# EAGLE library part IS61C3216AL-* (library memory-issi-asynsram)
32k x 16 high- speed CMOS static RAM 12ns access time 5V power supply
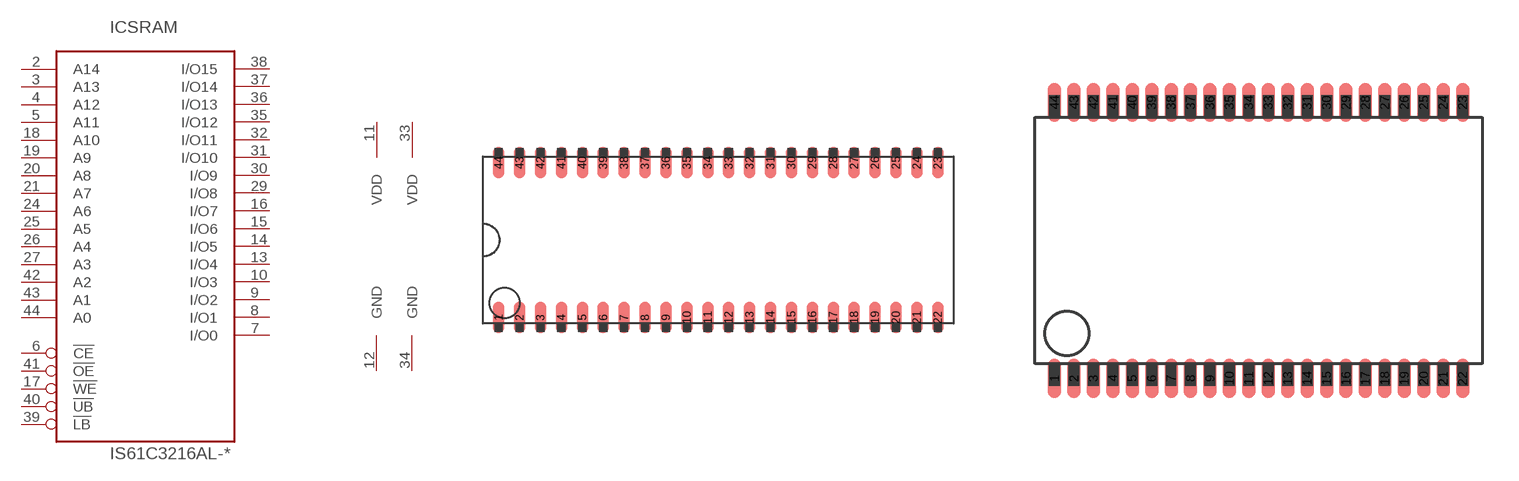
[diagram p69: symbol with the pads of SOJ44-400MIL; footprints SOJ44-400MIL, TSOP-II-44]

Designator prefix IC; gates SRAM=32KX16_TYP1 PWR=PWR_VDD2_GND2

## IS61C3216AL-12K  [SOJ44-400MIL]
2  SRAM:A14  in
3  SRAM:A13  in
4  SRAM:A12  in
5  SRAM:A11  in
6  SRAM:!CE  in
7  SRAM:I/O0  hiz
8  SRAM:I/O1  hiz
9  SRAM:I/O2  hiz
10  SRAM:I/O3  hiz
11  PWR:VDD  pwr
12  PWR:GND  pwr
13  SRAM:I/O4  hiz
14  SRAM:I/O5  hiz
15  SRAM:I/O6  hiz
16  SRAM:I/O7  hiz
17  SRAM:!WE  in
18  SRAM:A10  in
19  SRAM:A9  in
20  SRAM:A8  in
21  SRAM:A7  in
24  SRAM:A6  in
25  SRAM:A5  in
26  SRAM:A4  in
27  SRAM:A3  in
29  SRAM:I/O8  hiz
30  SRAM:I/O9  hiz
31  SRAM:I/O10  hiz
32  SRAM:I/O11  hiz
33  PWR:VDD  pwr
34  PWR:GND  pwr
35  SRAM:I/O12  hiz
36  SRAM:I/O13  hiz
37  SRAM:I/O14  hiz
38  SRAM:I/O15  hiz
39  SRAM:!LB  in
40  SRAM:!UB  in
41  SRAM:!OE  in
42  SRAM:A2  in
43  SRAM:A1  in
44  SRAM:A0  in

## IS61C3216AL-12T  [TSOP-II-44]
Pads as for SOJ44-400MIL

## Footprint SOJ44-400MIL (pad centres in mm)
SOJ44-400mil 44-pin small-outline J-lead
smd 0.7 x 1.9: 1 -13.335,-4.7; 2 -12.065,-4.7; 3 -10.795,-4.7; 4 -9.525,-4.7; 5 -8.255,-4.7; 6 -6.985,-4.7; 7 -5.715,-4.7; 8 -4.445,-4.7; 9 -3.175,-4.7; 10 -1.905,-4.7; 11 -0.635,-4.7; 12 0.635,-4.7; 13 1.905,-4.7; 14 3.175,-4.7; 15 4.445,-4.7; 16 5.715,-4.7; 17 6.985,-4.7; 18 8.255,-4.7; 19 9.525,-4.7; 20 10.795,-4.7; 21 12.065,-4.7; 22 13.335,-4.7; 23 13.335,4.7; 24 12.065,4.7; 25 10.795,4.7; 26 9.525,4.7; 27 8.255,4.7; 28 6.985,4.7; 29 5.715,4.7; 30 4.445,4.7; 31 3.175,4.7; 32 1.905,4.7; 33 0.635,4.7; 34 -0.635,4.7; 35 -1.905,4.7; 36 -3.175,4.7; 37 -4.445,4.7; 38 -5.715,4.7; 39 -6.985,4.7; 40 -8.255,4.7; 41 -9.525,4.7; 42 -10.795,4.7; 43 -12.065,4.7; 44 -13.335,4.7

## Footprint TSOP-II-44 (pad centres in mm)
TSOP-II-44 44-pin thin small-outline package, Typ II
smd 0.55 x 1.6: 1 -8.4,-5.68; 2 -7.6,-5.68; 3 -6.8,-5.68; 4 -6,-5.68; 5 -5.2,-5.68; 6 -4.4,-5.68; 7 -3.6,-5.68; 8 -2.8,-5.68; 9 -2,-5.68; 10 -1.2,-5.68; 11 -0.4,-5.68; 12 0.4,-5.68; 13 1.2,-5.68; 14 2,-5.68; 15 2.8,-5.68; 16 3.6,-5.68; 17 4.4,-5.68; 18 5.2,-5.68; 19 6,-5.68; 20 6.8,-5.68; 21 7.6,-5.68; 22 8.4,-5.68; 23 8.4,5.68; 24 7.6,5.68; 25 6.8,5.68; 26 6,5.68; 27 5.2,5.68; 28 4.4,5.68; 29 3.6,5.68; 30 2.8,5.68; 31 2,5.68; 32 1.2,5.68; 33 0.4,5.68; 34 -0.4,5.68; 35 -1.2,5.68; 36 -2,5.68; 37 -2.8,5.68; 38 -3.6,5.68; 39 -4.4,5.68; 40 -5.2,5.68; 41 -6,5.68; 42 -6.8,5.68; 43 -7.6,5.68; 44 -8.4,5.68